# Altium footprint library POT_1K_LOG_TH_RA.PcbLib: 1 footprints
Each footprint in its own frame and in the unit in brackets; x right, y up, seen from the top. Pads: shape width x height; smd on the part's side, far side on the other; paste and mask are expansions set on the pad; w line width, h text height; cw(c..) or ccw(c..) is an arc to the next point about the centre after c.
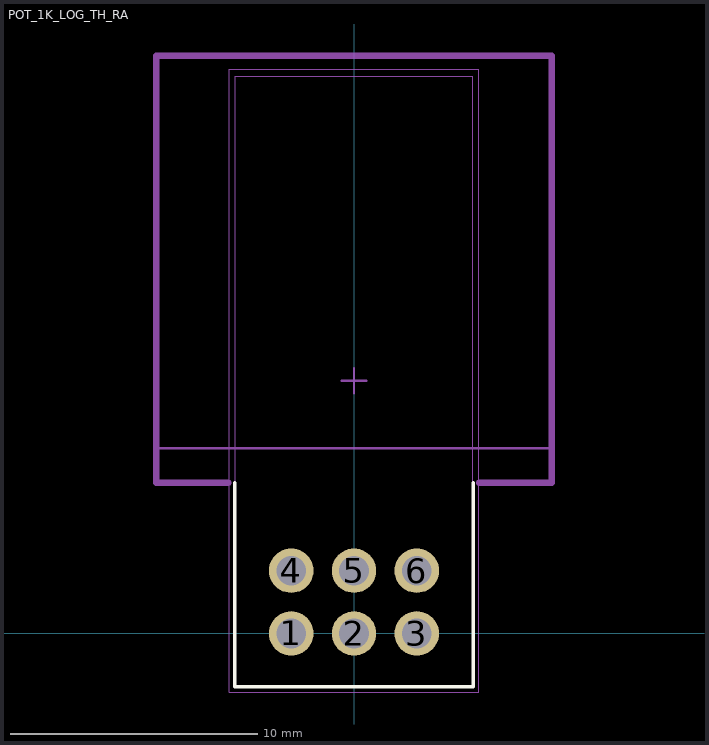
[diagram p0: the footprint, top view; thin cyan lines are the x and y axes]

## POT_1K_LOG_TH_RA [mm]
pads (6):
  round 1.8 hole 1.2: 1(-2.54,0) 2(0,0) 3(2.54,0) 4(-2.54,2.54) 5(0,2.54) 6(2.54,2.54)
Top Overlay:
  lines w0.15: -4.826,6.096 -4.826,-2.159 4.826,-2.159 4.826,6.096
Mechanical 1:
  lines w0.1: -8.001,7.5 8.001,7.5
  text "Board Edge" at -3.624,7.9 h0.75
Top Assembly:
  lines w0.05: -4.8,-2.1 4.8,-2.1 4.8,22.55 -4.8,22.55 -4.8,-2.1
  lines w0.1: -8.001,7.5 8.001,7.5
  text ".Designator" at -3.091,11.393 h1.27
  text "Board Edge" at -3.624,7.9 h0.75
Top Courtyard:
  lines w0.05: -5.05,-2.375 5.05,-2.375 5.05,22.825 -5.05,22.825 -5.05,-2.375
  lines w0.1: -0.5,10.225 0.5,10.225 ; 0,9.725 0,10.725
  lines w0.25: -5.072,6.096 -8.001,6.096 -8.001,23.368 8.001,23.368 8.001,6.096 5.057,6.096
  text "Knob Outline" at 5.853,24.892 h1.91
3D body "POT_1K_LOG_TH_RA.step": height 11.33, standoff -3.53, extent -4.8,-2.1 4.8,22.55